# EAGLE library part FSA3259BQX (library Fairchild_By_element14_Batch_1)
Dual SP3T Analog Switch
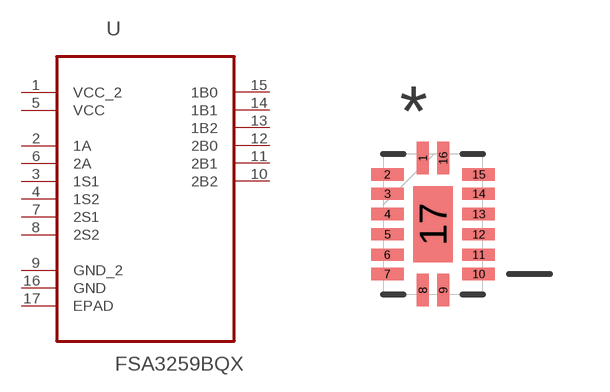
[diagram p188: symbol with the pads of QFN50P250X350X80-17N; footprint QFN50P250X350X80-17N]

Designator prefix U

## FSA3259BQX (MPN: FSA3259BQX; OC_FARNELL: 1517658; OC_NEWARK: 86K1548; PACKAGE: QFN-16; SUPPLIER: FAIRCHILD SEMICONDUCTOR)  [QFN50P250X350X80-17N]
1  VCC_2  pwr
2  1A  in
3  1S1  in
4  1S2  in
5  VCC  pwr
6  2A  in
7  2S1  in
8  2S2  in
9  GND_2  pas
10  2B2
11  2B1
12  2B0
13  1B2
14  1B1
15  1B0
16  GND  pas
17  EPAD  pas

## Footprint QFN50P250X350X80-17N (pad centres in mm)
smd 0.305 x 0.813: 1 -0.254,1.651; 8 -0.254,-1.651; 9 0.254,-1.651; 16 0.254,1.651
smd 0.813 x 0.305: 2 -1.143,1.245; 3 -1.143,0.762; 4 -1.143,0.254; 5 -1.143,-0.254; 6 -1.143,-0.762; 7 -1.143,-1.245; 10 1.143,-1.245; 11 1.143,-0.762; 12 1.143,-0.254; 13 1.143,0.254; 14 1.143,0.762; 15 1.143,1.245
smd 0.991 x 1.905: 17 0,0